# Altium integrated library TI Data Converters Digital to Analog Converter.IntLib: 1533 symbols (part 63 of 99)
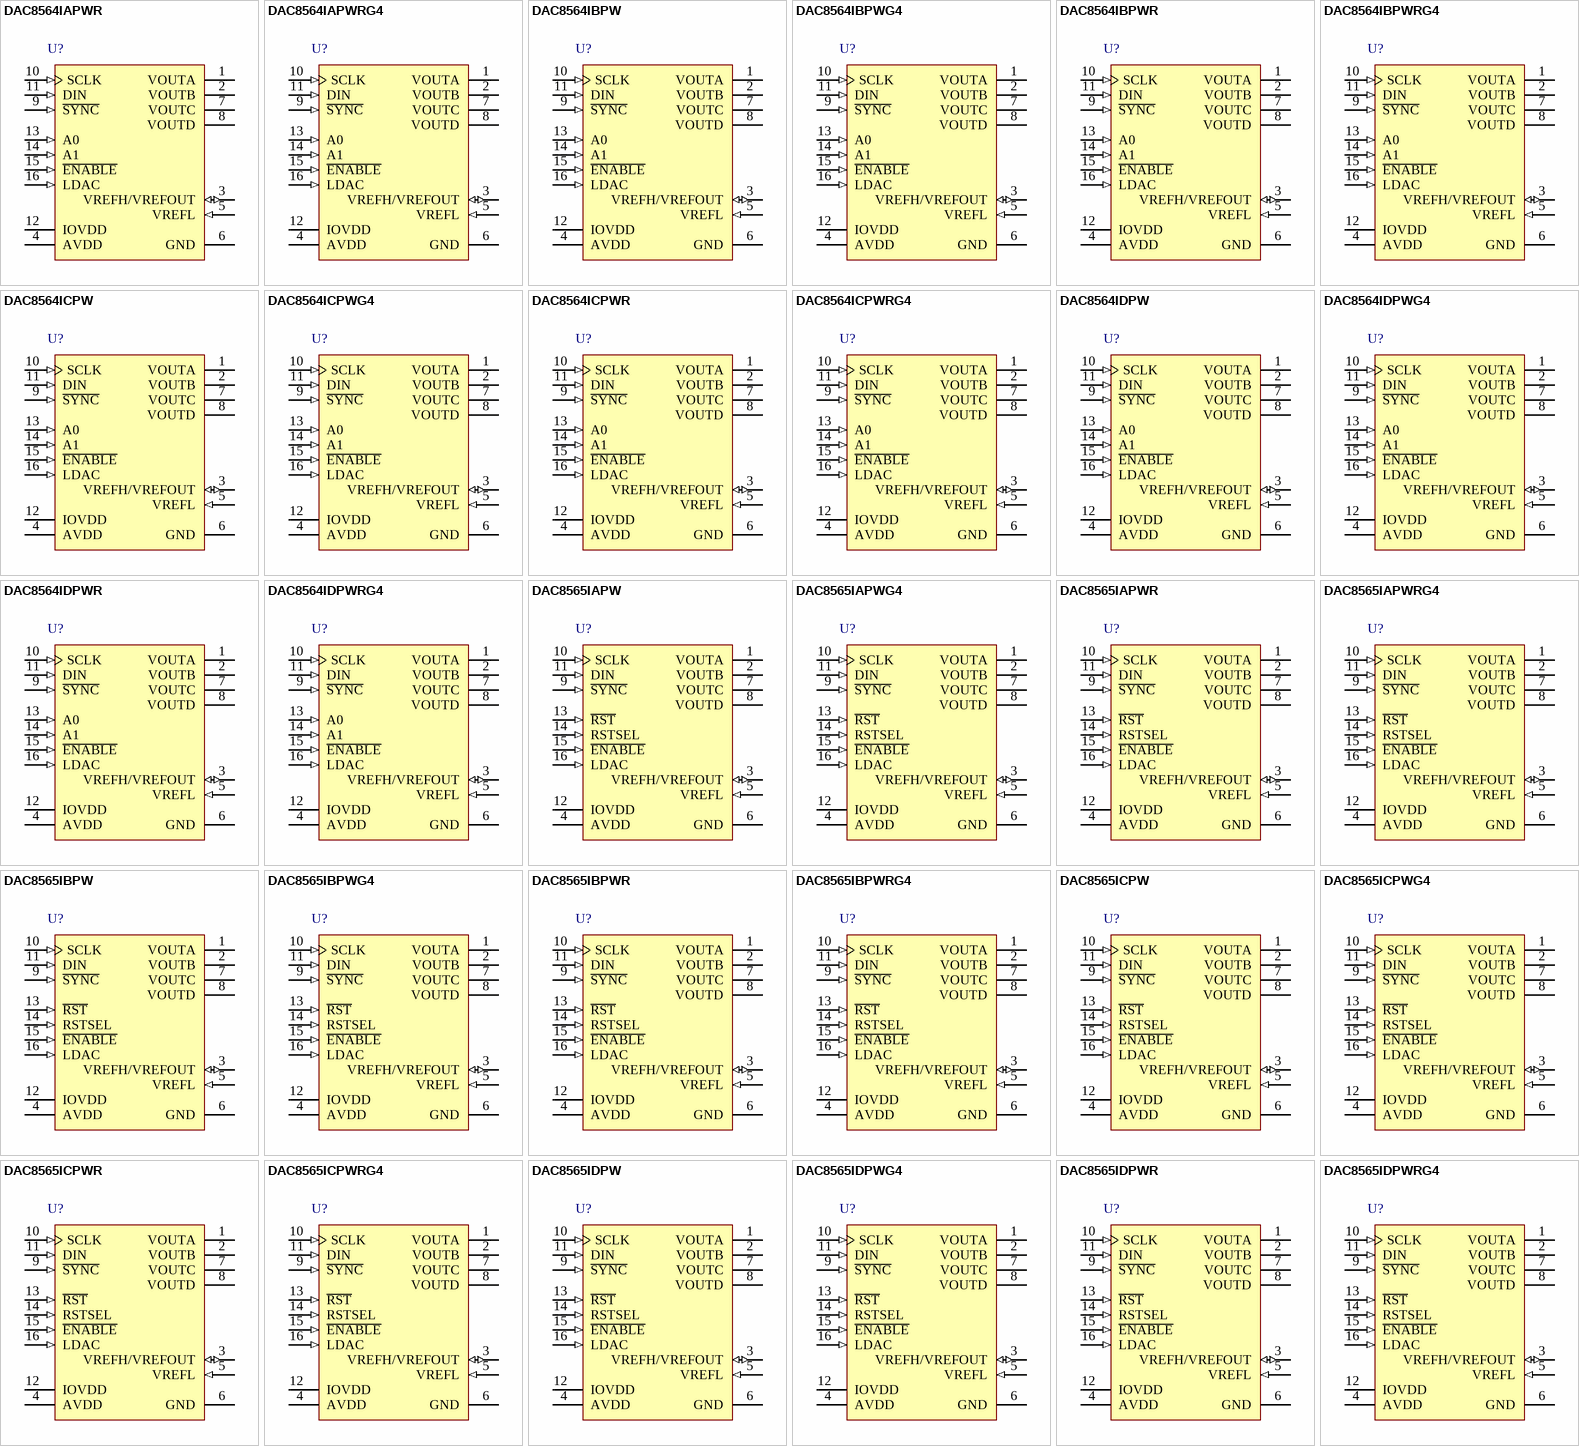
[diagram p135: symbols DAC8564IAPWR to DAC8565IDPWRG4]

## DAC8565IAPWG4
designator U?
16-Bit, Quad Channel, Ultra-Low Glitch, Voltage Output DAC with 2.5 V, 2 ppm/degC Internal Reference, -40 to 105 degC, 16-pin SOP (PW16), Green (RoHS & no Sb/Br); Manufacturer: Texas Instruments; PartNumber: DAC8565IAPWG4; DAC Channels: 4; DNL(Max)(+/-LSB): 1; INL(Max)(+/-LSB): 12; Interface: Serial SPI; Power Consumption(Typ)(mW): 3.6; Resolution(Bits): 16; Settling Time(us): 8; SFDR(dB): 78; SNR(dB): 90; SubFamily: Precision DAC (=<10MSPS); DatasheetVersion: SBAS411C; PackageVersion: 4040064-4/G, 02/2011; PackageReference: PW16; PackageDescription: 16-Pin Plastic Small Outline, Body 5 x 4.4 mm, Pitch 0.65 mm; Supplier 1: Digi-Key; Supplier Part Number 1: DAC8565IAPWG4-ND; Supplier 2: Mouser; Supplier Part Number 2: 595-DAC8565IAPWG4; Eco-Plan: Green (RoHS & no Sb/Br); Mounting Technology: Surface Mount; Code_JEDEC: MO-153; ComponentLink1Description: Manufacturer URL; ComponentLink1URL: http://www.ti.com/; ComponentLink2Description: Datasheet; ComponentLink2URL: http://www.ti.com/general/docs/lit/getliterature.tsp?genericPartNumber=DAC8565&fileType=pdf; ComponentLink3Description: Package Specification; ComponentLink3URL: http://www.ti.com/lit/ml/mpds361/mpds361.pdf
footprint TI-PW16_N (SOP, 16-Leads, Body 5x4.4mm, Pitch 0.65mm, IPC Medium Density)
footprint TI-PW16_L (SOP, 16-Leads, Body 5x4.4mm, Pitch 0.65mm, IPC High Density)
footprint TI-PW16_M (SOP, 16-Leads, Body 5x4.4mm, Pitch 0.65mm, IPC Low Density)
pins: 1 VOUTA (hiz) "Analog output voltage from DAC A", 2 VOUTB (hiz) "Analog output voltage from DAC B", 3 VREFH/VREFOUT (io) "Positive reference input / reference output 2.5V if internal reference used.", 4 AVDD (power) "Power-supply input, 2.7V to 5.5V", 5 VREFL (in) "Negative reference input", 6 GND (power) "Ground reference point for all circuitry on the part", 7 VOUTC (hiz) "Analog output voltage from DAC C", 8 VOUTD (hiz) "Analog output voltage from DAC D", 9 ~{SYNC} (in) "Level-triggered control input (active low). This input is the frame synchronization signal for the input data. When S\Y\N\C\ goes low, it enables the input shift register, and data are sampled on subsequent falling clock (See Datasheet)", 10 SCLK (in) "Serial clock input. Data can be transferred at rates up to 50MHz. Schmitt-Trigger logic input.", 11 DIN (in) "Serial data input. Data are clocked into the 24-bit input shift register on each falling edge of the serial clock input. Schmitt-Trigger logic input.", 12 IOVDD (power) "Digital input-output power supply", 13 ~{RST} (in) "Asynchronous reset. Active low. If R\S\T\ is low, all DAC channels reset either to zero-scale (RSTSEL = 0) or to mid-scale (RSTSEL = 1)", 14 RSTSEL (in) "Reset select. If RSTSEL is low, input coding is binary; if high = two's complement.", 15 ~{ENABLE} (in) "The enable pin (active low) connects the SPI interface to the serial port", 16 LDAC (in) "Load DACs; rising edge triggered, loads all DAC registers"

## DAC8565IAPWR
designator U?
16-Bit, Quad Channel, Ultra-Low Glitch, Voltage Output DAC with 2.5 V, 2 ppm/degC Internal Reference, -40 to 105 degC, 16-pin SOP (PW16), Green (RoHS & no Sb/Br); Manufacturer: Texas Instruments; PartNumber: DAC8565IAPWR; DAC Channels: 4; DNL(Max)(+/-LSB): 1; INL(Max)(+/-LSB): 12; Interface: Serial SPI; Power Consumption(Typ)(mW): 3.6; Resolution(Bits): 16; Settling Time(us): 8; SFDR(dB): 78; SNR(dB): 90; SubFamily: Precision DAC (=<10MSPS); DatasheetVersion: SBAS411C; PackageVersion: 4040064-4/G, 02/2011; PackageReference: PW16; PackageDescription: 16-Pin Plastic Small Outline, Body 5 x 4.4 mm, Pitch 0.65 mm; Supplier 1: Digi-Key; Supplier Part Number 1: DAC8565IAPWR-ND; Supplier 2: Newark; Supplier Part Number 2: 65M0712; Supplier 3: Mouser; Supplier Part Number 3: 595-DAC8565IAPWR; Eco-Plan: Green (RoHS & no Sb/Br); Mounting Technology: Surface Mount; Code_JEDEC: MO-153; ComponentLink1Description: Manufacturer URL; ComponentLink1URL: http://www.ti.com/; ComponentLink2Description: Datasheet; ComponentLink2URL: http://www.ti.com/general/docs/lit/getliterature.tsp?genericPartNumber=DAC8565&fileType=pdf; ComponentLink3Description: Package Specification; ComponentLink3URL: http://www.ti.com/lit/ml/mpds361/mpds361.pdf
footprint TI-PW16_N (SOP, 16-Leads, Body 5x4.4mm, Pitch 0.65mm, IPC Medium Density)
footprint TI-PW16_L (SOP, 16-Leads, Body 5x4.4mm, Pitch 0.65mm, IPC High Density)
footprint TI-PW16_M (SOP, 16-Leads, Body 5x4.4mm, Pitch 0.65mm, IPC Low Density)
pins: 1 VOUTA (hiz) "Analog output voltage from DAC A", 2 VOUTB (hiz) "Analog output voltage from DAC B", 3 VREFH/VREFOUT (io) "Positive reference input / reference output 2.5V if internal reference used.", 4 AVDD (power) "Power-supply input, 2.7V to 5.5V", 5 VREFL (in) "Negative reference input", 6 GND (power) "Ground reference point for all circuitry on the part", 7 VOUTC (hiz) "Analog output voltage from DAC C", 8 VOUTD (hiz) "Analog output voltage from DAC D", 9 ~{SYNC} (in) "Level-triggered control input (active low). This input is the frame synchronization signal for the input data. When S\Y\N\C\ goes low, it enables the input shift register, and data are sampled on subsequent falling clock (See Datasheet)", 10 SCLK (in) "Serial clock input. Data can be transferred at rates up to 50MHz. Schmitt-Trigger logic input.", 11 DIN (in) "Serial data input. Data are clocked into the 24-bit input shift register on each falling edge of the serial clock input. Schmitt-Trigger logic input.", 12 IOVDD (power) "Digital input-output power supply", 13 ~{RST} (in) "Asynchronous reset. Active low. If R\S\T\ is low, all DAC channels reset either to zero-scale (RSTSEL = 0) or to mid-scale (RSTSEL = 1)", 14 RSTSEL (in) "Reset select. If RSTSEL is low, input coding is binary; if high = two's complement.", 15 ~{ENABLE} (in) "The enable pin (active low) connects the SPI interface to the serial port", 16 LDAC (in) "Load DACs; rising edge triggered, loads all DAC registers"

## DAC8565IAPWRG4
designator U?
16-Bit, Quad Channel, Ultra-Low Glitch, Voltage Output DAC with 2.5 V, 2 ppm/degC Internal Reference, -40 to 105 degC, 16-pin SOP (PW16), Green (RoHS & no Sb/Br); Manufacturer: Texas Instruments; PartNumber: DAC8565IAPWRG4; DAC Channels: 4; DNL(Max)(+/-LSB): 1; INL(Max)(+/-LSB): 12; Interface: Serial SPI; Power Consumption(Typ)(mW): 3.6; Resolution(Bits): 16; Settling Time(us): 8; SFDR(dB): 78; SNR(dB): 90; SubFamily: Precision DAC (=<10MSPS); DatasheetVersion: SBAS411C; PackageVersion: 4040064-4/G, 02/2011; PackageReference: PW16; PackageDescription: 16-Pin Plastic Small Outline, Body 5 x 4.4 mm, Pitch 0.65 mm; Supplier 1: Digi-Key; Supplier Part Number 1: DAC8565IAPWRG4-ND; Supplier 2: Mouser; Supplier Part Number 2: 595-DAC8565IAPWRG4; Eco-Plan: Green (RoHS & no Sb/Br); Mounting Technology: Surface Mount; Code_JEDEC: MO-153; ComponentLink1Description: Manufacturer URL; ComponentLink1URL: http://www.ti.com/; ComponentLink2Description: Datasheet; ComponentLink2URL: http://www.ti.com/general/docs/lit/getliterature.tsp?genericPartNumber=DAC8565&fileType=pdf; ComponentLink3Description: Package Specification; ComponentLink3URL: http://www.ti.com/lit/ml/mpds361/mpds361.pdf
footprint TI-PW16_N (SOP, 16-Leads, Body 5x4.4mm, Pitch 0.65mm, IPC Medium Density)
footprint TI-PW16_L (SOP, 16-Leads, Body 5x4.4mm, Pitch 0.65mm, IPC High Density)
footprint TI-PW16_M (SOP, 16-Leads, Body 5x4.4mm, Pitch 0.65mm, IPC Low Density)
pins: 1 VOUTA (hiz) "Analog output voltage from DAC A", 2 VOUTB (hiz) "Analog output voltage from DAC B", 3 VREFH/VREFOUT (io) "Positive reference input / reference output 2.5V if internal reference used.", 4 AVDD (power) "Power-supply input, 2.7V to 5.5V", 5 VREFL (in) "Negative reference input", 6 GND (power) "Ground reference point for all circuitry on the part", 7 VOUTC (hiz) "Analog output voltage from DAC C", 8 VOUTD (hiz) "Analog output voltage from DAC D", 9 ~{SYNC} (in) "Level-triggered control input (active low). This input is the frame synchronization signal for the input data. When S\Y\N\C\ goes low, it enables the input shift register, and data are sampled on subsequent falling clock (See Datasheet)", 10 SCLK (in) "Serial clock input. Data can be transferred at rates up to 50MHz. Schmitt-Trigger logic input.", 11 DIN (in) "Serial data input. Data are clocked into the 24-bit input shift register on each falling edge of the serial clock input. Schmitt-Trigger logic input.", 12 IOVDD (power) "Digital input-output power supply", 13 ~{RST} (in) "Asynchronous reset. Active low. If R\S\T\ is low, all DAC channels reset either to zero-scale (RSTSEL = 0) or to mid-scale (RSTSEL = 1)", 14 RSTSEL (in) "Reset select. If RSTSEL is low, input coding is binary; if high = two's complement.", 15 ~{ENABLE} (in) "The enable pin (active low) connects the SPI interface to the serial port", 16 LDAC (in) "Load DACs; rising edge triggered, loads all DAC registers"

## DAC8565IBPW
designator U?
16-Bit, Quad Channel, Ultra-Low Glitch, Voltage Output DAC with 2.5 V, 2 ppm/degC Internal Reference, -40 to 105 degC, 16-pin SOP (PW16), Green (RoHS & no Sb/Br); Manufacturer: Texas Instruments; PartNumber: DAC8565IBPW; DAC Channels: 4; DNL(Max)(+/-LSB): 1; INL(Max)(+/-LSB): 8; Interface: Serial SPI; Power Consumption(Typ)(mW): 3.6; Resolution(Bits): 16; SFDR(dB): 78; SNR(dB): 90; SubFamily: Precision DAC (=<10MSPS); DatasheetVersion: SBAS411C; PackageVersion: 4040064-4/G, 02/2011; PackageReference: PW16; PackageDescription: 16-Pin Plastic Small Outline, Body 5 x 4.4 mm, Pitch 0.65 mm; Supplier 1: Digi-Key; Supplier Part Number 1: 296-22925-5-ND; Supplier 2: Mouser; Supplier Part Number 2: 595-DAC8565IBPW; Eco-Plan: Green (RoHS & no Sb/Br); Settling Time(us): 8; Mounting Technology: Surface Mount; Code_JEDEC: MO-153; ComponentLink1Description: Manufacturer URL; ComponentLink1URL: http://www.ti.com/; ComponentLink2Description: Datasheet; ComponentLink2URL: http://www.ti.com/general/docs/lit/getliterature.tsp?genericPartNumber=DAC8565&fileType=pdf; ComponentLink3Description: Package Specification; ComponentLink3URL: http://www.ti.com/lit/ml/mpds361/mpds361.pdf
footprint TI-PW16_N (SOP, 16-Leads, Body 5x4.4mm, Pitch 0.65mm, IPC Medium Density)
footprint TI-PW16_L (SOP, 16-Leads, Body 5x4.4mm, Pitch 0.65mm, IPC High Density)
footprint TI-PW16_M (SOP, 16-Leads, Body 5x4.4mm, Pitch 0.65mm, IPC Low Density)
pins: 1 VOUTA (hiz) "Analog output voltage from DAC A", 2 VOUTB (hiz) "Analog output voltage from DAC B", 3 VREFH/VREFOUT (io) "Positive reference input / reference output 2.5V if internal reference used.", 4 AVDD (power) "Power-supply input, 2.7V to 5.5V", 5 VREFL (in) "Negative reference input", 6 GND (power) "Ground reference point for all circuitry on the part", 7 VOUTC (hiz) "Analog output voltage from DAC C", 8 VOUTD (hiz) "Analog output voltage from DAC D", 9 ~{SYNC} (in) "Level-triggered control input (active low). This input is the frame synchronization signal for the input data. When S\Y\N\C\ goes low, it enables the input shift register, and data are sampled on subsequent falling clock (See Datasheet)", 10 SCLK (in) "Serial clock input. Data can be transferred at rates up to 50MHz. Schmitt-Trigger logic input.", 11 DIN (in) "Serial data input. Data are clocked into the 24-bit input shift register on each falling edge of the serial clock input. Schmitt-Trigger logic input.", 12 IOVDD (power) "Digital input-output power supply", 13 ~{RST} (in) "Asynchronous reset. Active low. If R\S\T\ is low, all DAC channels reset either to zero-scale (RSTSEL = 0) or to mid-scale (RSTSEL = 1)", 14 RSTSEL (in) "Reset select. If RSTSEL is low, input coding is binary; if high = two's complement.", 15 ~{ENABLE} (in) "The enable pin (active low) connects the SPI interface to the serial port", 16 LDAC (in) "Load DACs; rising edge triggered, loads all DAC registers"

## DAC8565IBPWG4
designator U?
16-Bit, Quad Channel, Ultra-Low Glitch, Voltage Output DAC with 2.5 V, 2 ppm/degC Internal Reference, -40 to 105 degC, 16-pin SOP (PW16), Green (RoHS & no Sb/Br); Manufacturer: Texas Instruments; PartNumber: DAC8565IBPWG4; DAC Channels: 4; DNL(Max)(+/-LSB): 1; INL(Max)(+/-LSB): 8; Interface: Serial SPI; Power Consumption(Typ)(mW): 3.6; Resolution(Bits): 16; SFDR(dB): 78; SNR(dB): 90; SubFamily: Precision DAC (=<10MSPS); DatasheetVersion: SBAS411C; PackageVersion: 4040064-4/G, 02/2011; PackageReference: PW16; PackageDescription: 16-Pin Plastic Small Outline, Body 5 x 4.4 mm, Pitch 0.65 mm; Supplier 1: Digi-Key; Supplier Part Number 1: DAC8565IBPWG4-ND; Supplier 2: Mouser; Supplier Part Number 2: 595-DAC8565IBPWG4; Eco-Plan: Green (RoHS & no Sb/Br); Settling Time(us): 8; Mounting Technology: Surface Mount; Code_JEDEC: MO-153; ComponentLink1Description: Manufacturer URL; ComponentLink1URL: http://www.ti.com/; ComponentLink2Description: Datasheet; ComponentLink2URL: http://www.ti.com/general/docs/lit/getliterature.tsp?genericPartNumber=DAC8565&fileType=pdf; ComponentLink3Description: Package Specification; ComponentLink3URL: http://www.ti.com/lit/ml/mpds361/mpds361.pdf
footprint TI-PW16_N (SOP, 16-Leads, Body 5x4.4mm, Pitch 0.65mm, IPC Medium Density)
footprint TI-PW16_L (SOP, 16-Leads, Body 5x4.4mm, Pitch 0.65mm, IPC High Density)
footprint TI-PW16_M (SOP, 16-Leads, Body 5x4.4mm, Pitch 0.65mm, IPC Low Density)
pins: 1 VOUTA (hiz) "Analog output voltage from DAC A", 2 VOUTB (hiz) "Analog output voltage from DAC B", 3 VREFH/VREFOUT (io) "Positive reference input / reference output 2.5V if internal reference used.", 4 AVDD (power) "Power-supply input, 2.7V to 5.5V", 5 VREFL (in) "Negative reference input", 6 GND (power) "Ground reference point for all circuitry on the part", 7 VOUTC (hiz) "Analog output voltage from DAC C", 8 VOUTD (hiz) "Analog output voltage from DAC D", 9 ~{SYNC} (in) "Level-triggered control input (active low). This input is the frame synchronization signal for the input data. When S\Y\N\C\ goes low, it enables the input shift register, and data are sampled on subsequent falling clock (See Datasheet)", 10 SCLK (in) "Serial clock input. Data can be transferred at rates up to 50MHz. Schmitt-Trigger logic input.", 11 DIN (in) "Serial data input. Data are clocked into the 24-bit input shift register on each falling edge of the serial clock input. Schmitt-Trigger logic input.", 12 IOVDD (power) "Digital input-output power supply", 13 ~{RST} (in) "Asynchronous reset. Active low. If R\S\T\ is low, all DAC channels reset either to zero-scale (RSTSEL = 0) or to mid-scale (RSTSEL = 1)", 14 RSTSEL (in) "Reset select. If RSTSEL is low, input coding is binary; if high = two's complement.", 15 ~{ENABLE} (in) "The enable pin (active low) connects the SPI interface to the serial port", 16 LDAC (in) "Load DACs; rising edge triggered, loads all DAC registers"

## DAC8565IBPWR
designator U?
16-Bit, Quad Channel, Ultra-Low Glitch, Voltage Output DAC with 2.5 V, 2 ppm/degC Internal Reference, -40 to 105 degC, 16-pin SOP (PW16), Green (RoHS & no Sb/Br); Manufacturer: Texas Instruments; PartNumber: DAC8565IBPWR; DAC Channels: 4; DNL(Max)(+/-LSB): 1; INL(Max)(+/-LSB): 8; Interface: Serial SPI; Power Consumption(Typ)(mW): 3.6; Resolution(Bits): 16; SFDR(dB): 78; SNR(dB): 90; SubFamily: Precision DAC (=<10MSPS); DatasheetVersion: SBAS411C; PackageVersion: 4040064-4/G, 02/2011; PackageReference: PW16; PackageDescription: 16-Pin Plastic Small Outline, Body 5 x 4.4 mm, Pitch 0.65 mm; Supplier 1: Digi-Key; Supplier Part Number 1: DAC8565IBPWR-ND; Supplier 2: Mouser; Supplier Part Number 2: 595-DAC8565IBPWR; Eco-Plan: Green (RoHS & no Sb/Br); Settling Time(us): 8; Mounting Technology: Surface Mount; Code_JEDEC: MO-153; ComponentLink1Description: Manufacturer URL; ComponentLink1URL: http://www.ti.com/; ComponentLink2Description: Datasheet; ComponentLink2URL: http://www.ti.com/general/docs/lit/getliterature.tsp?genericPartNumber=DAC8565&fileType=pdf; ComponentLink3Description: Package Specification; ComponentLink3URL: http://www.ti.com/lit/ml/mpds361/mpds361.pdf
footprint TI-PW16_N (SOP, 16-Leads, Body 5x4.4mm, Pitch 0.65mm, IPC Medium Density)
footprint TI-PW16_L (SOP, 16-Leads, Body 5x4.4mm, Pitch 0.65mm, IPC High Density)
footprint TI-PW16_M (SOP, 16-Leads, Body 5x4.4mm, Pitch 0.65mm, IPC Low Density)
pins: 1 VOUTA (hiz) "Analog output voltage from DAC A", 2 VOUTB (hiz) "Analog output voltage from DAC B", 3 VREFH/VREFOUT (io) "Positive reference input / reference output 2.5V if internal reference used.", 4 AVDD (power) "Power-supply input, 2.7V to 5.5V", 5 VREFL (in) "Negative reference input", 6 GND (power) "Ground reference point for all circuitry on the part", 7 VOUTC (hiz) "Analog output voltage from DAC C", 8 VOUTD (hiz) "Analog output voltage from DAC D", 9 ~{SYNC} (in) "Level-triggered control input (active low). This input is the frame synchronization signal for the input data. When S\Y\N\C\ goes low, it enables the input shift register, and data are sampled on subsequent falling clock (See Datasheet)", 10 SCLK (in) "Serial clock input. Data can be transferred at rates up to 50MHz. Schmitt-Trigger logic input.", 11 DIN (in) "Serial data input. Data are clocked into the 24-bit input shift register on each falling edge of the serial clock input. Schmitt-Trigger logic input.", 12 IOVDD (power) "Digital input-output power supply", 13 ~{RST} (in) "Asynchronous reset. Active low. If R\S\T\ is low, all DAC channels reset either to zero-scale (RSTSEL = 0) or to mid-scale (RSTSEL = 1)", 14 RSTSEL (in) "Reset select. If RSTSEL is low, input coding is binary; if high = two's complement.", 15 ~{ENABLE} (in) "The enable pin (active low) connects the SPI interface to the serial port", 16 LDAC (in) "Load DACs; rising edge triggered, loads all DAC registers"

## DAC8565IBPWRG4
designator U?
16-Bit, Quad Channel, Ultra-Low Glitch, Voltage Output DAC with 2.5 V, 2 ppm/degC Internal Reference, -40 to 105 degC, 16-pin SOP (PW16), Green (RoHS & no Sb/Br); Manufacturer: Texas Instruments; PartNumber: DAC8565IBPWRG4; DAC Channels: 4; DNL(Max)(+/-LSB): 1; INL(Max)(+/-LSB): 8; Interface: Serial SPI; Power Consumption(Typ)(mW): 3.6; Resolution(Bits): 16; SFDR(dB): 78; SNR(dB): 90; SubFamily: Precision DAC (=<10MSPS); DatasheetVersion: SBAS411C; PackageVersion: 4040064-4/G, 02/2011; PackageReference: PW16; PackageDescription: 16-Pin Plastic Small Outline, Body 5 x 4.4 mm, Pitch 0.65 mm; Supplier 1: Digi-Key; Supplier Part Number 1: DAC8565IBPWRG4-ND; Supplier 2: Mouser; Supplier Part Number 2: 595-DAC8565IBPWRG4; Eco-Plan: Green (RoHS & no Sb/Br); Settling Time(us): 8; Mounting Technology: Surface Mount; Code_JEDEC: MO-153; ComponentLink1Description: Manufacturer URL; ComponentLink1URL: http://www.ti.com/; ComponentLink2Description: Datasheet; ComponentLink2URL: http://www.ti.com/general/docs/lit/getliterature.tsp?genericPartNumber=DAC8565&fileType=pdf; ComponentLink3Description: Package Specification; ComponentLink3URL: http://www.ti.com/lit/ml/mpds361/mpds361.pdf
footprint TI-PW16_N (SOP, 16-Leads, Body 5x4.4mm, Pitch 0.65mm, IPC Medium Density)
footprint TI-PW16_L (SOP, 16-Leads, Body 5x4.4mm, Pitch 0.65mm, IPC High Density)
footprint TI-PW16_M (SOP, 16-Leads, Body 5x4.4mm, Pitch 0.65mm, IPC Low Density)
pins: 1 VOUTA (hiz) "Analog output voltage from DAC A", 2 VOUTB (hiz) "Analog output voltage from DAC B", 3 VREFH/VREFOUT (io) "Positive reference input / reference output 2.5V if internal reference used.", 4 AVDD (power) "Power-supply input, 2.7V to 5.5V", 5 VREFL (in) "Negative reference input", 6 GND (power) "Ground reference point for all circuitry on the part", 7 VOUTC (hiz) "Analog output voltage from DAC C", 8 VOUTD (hiz) "Analog output voltage from DAC D", 9 ~{SYNC} (in) "Level-triggered control input (active low). This input is the frame synchronization signal for the input data. When S\Y\N\C\ goes low, it enables the input shift register, and data are sampled on subsequent falling clock (See Datasheet)", 10 SCLK (in) "Serial clock input. Data can be transferred at rates up to 50MHz. Schmitt-Trigger logic input.", 11 DIN (in) "Serial data input. Data are clocked into the 24-bit input shift register on each falling edge of the serial clock input. Schmitt-Trigger logic input.", 12 IOVDD (power) "Digital input-output power supply", 13 ~{RST} (in) "Asynchronous reset. Active low. If R\S\T\ is low, all DAC channels reset either to zero-scale (RSTSEL = 0) or to mid-scale (RSTSEL = 1)", 14 RSTSEL (in) "Reset select. If RSTSEL is low, input coding is binary; if high = two's complement.", 15 ~{ENABLE} (in) "The enable pin (active low) connects the SPI interface to the serial port", 16 LDAC (in) "Load DACs; rising edge triggered, loads all DAC registers"

## DAC8565ICPW
designator U?
16-Bit, Quad Channel, Ultra-Low Glitch, Voltage Output DAC with 2.5 V, 2 ppm/degC Internal Reference, -40 to 105 degC, 16-pin SOP (PW16), Green (RoHS & no Sb/Br); Manufacturer: Texas Instruments; PartNumber: DAC8565ICPW; DAC Channels: 4; DNL(Max)(+/-LSB): 1; INL(Max)(+/-LSB): 12; Interface: Serial SPI; Power Consumption(Typ)(mW): 3.6; Resolution(Bits): 16; Settling Time(us): 8; SFDR(dB): 78; SNR(dB): 90; SubFamily: Precision DAC (=<10MSPS); DatasheetVersion: SBAS411C; PackageVersion: 4040064-4/G, 02/2011; PackageReference: PW16; PackageDescription: 16-Pin Plastic Small Outline, Body 5 x 4.4 mm, Pitch 0.65 mm; Supplier 1: Digi-Key; Supplier Part Number 1: 296-22926-5-ND; Supplier 2: Newark; Supplier Part Number 2: 65M0715; Supplier 3: Mouser; Supplier Part Number 3: 595-DAC8565ICPW; Eco-Plan: Green (RoHS & no Sb/Br); Mounting Technology: Surface Mount; Code_JEDEC: MO-153; ComponentLink1Description: Manufacturer URL; ComponentLink1URL: http://www.ti.com/; ComponentLink2Description: Datasheet; ComponentLink2URL: http://www.ti.com/general/docs/lit/getliterature.tsp?genericPartNumber=DAC8565&fileType=pdf; ComponentLink3Description: Package Specification; ComponentLink3URL: http://www.ti.com/lit/ml/mpds361/mpds361.pdf
footprint TI-PW16_N (SOP, 16-Leads, Body 5x4.4mm, Pitch 0.65mm, IPC Medium Density)
footprint TI-PW16_L (SOP, 16-Leads, Body 5x4.4mm, Pitch 0.65mm, IPC High Density)
footprint TI-PW16_M (SOP, 16-Leads, Body 5x4.4mm, Pitch 0.65mm, IPC Low Density)
pins: 1 VOUTA (hiz) "Analog output voltage from DAC A", 2 VOUTB (hiz) "Analog output voltage from DAC B", 3 VREFH/VREFOUT (io) "Positive reference input / reference output 2.5V if internal reference used.", 4 AVDD (power) "Power-supply input, 2.7V to 5.5V", 5 VREFL (in) "Negative reference input", 6 GND (power) "Ground reference point for all circuitry on the part", 7 VOUTC (hiz) "Analog output voltage from DAC C", 8 VOUTD (hiz) "Analog output voltage from DAC D", 9 ~{SYNC} (in) "Level-triggered control input (active low). This input is the frame synchronization signal for the input data. When S\Y\N\C\ goes low, it enables the input shift register, and data are sampled on subsequent falling clock (See Datasheet)", 10 SCLK (in) "Serial clock input. Data can be transferred at rates up to 50MHz. Schmitt-Trigger logic input.", 11 DIN (in) "Serial data input. Data are clocked into the 24-bit input shift register on each falling edge of the serial clock input. Schmitt-Trigger logic input.", 12 IOVDD (power) "Digital input-output power supply", 13 ~{RST} (in) "Asynchronous reset. Active low. If R\S\T\ is low, all DAC channels reset either to zero-scale (RSTSEL = 0) or to mid-scale (RSTSEL = 1)", 14 RSTSEL (in) "Reset select. If RSTSEL is low, input coding is binary; if high = two's complement.", 15 ~{ENABLE} (in) "The enable pin (active low) connects the SPI interface to the serial port", 16 LDAC (in) "Load DACs; rising edge triggered, loads all DAC registers"

## DAC8565ICPWG4
designator U?
16-Bit, Quad Channel, Ultra-Low Glitch, Voltage Output DAC with 2.5 V, 2 ppm/degC Internal Reference, -40 to 105 degC, 16-pin SOP (PW16), Green (RoHS & no Sb/Br); Manufacturer: Texas Instruments; PartNumber: DAC8565ICPWG4; DAC Channels: 4; DNL(Max)(+/-LSB): 1; INL(Max)(+/-LSB): 12; Interface: Serial SPI; Power Consumption(Typ)(mW): 3.6; Resolution(Bits): 16; Settling Time(us): 8; SFDR(dB): 78; SNR(dB): 90; SubFamily: Precision DAC (=<10MSPS); DatasheetVersion: SBAS411C; PackageVersion: 4040064-4/G, 02/2011; PackageReference: PW16; PackageDescription: 16-Pin Plastic Small Outline, Body 5 x 4.4 mm, Pitch 0.65 mm; Supplier 1: Digi-Key; Supplier Part Number 1: DAC8565ICPWG4-ND; Supplier 2: Mouser; Supplier Part Number 2: 595-DAC8565ICPWG4; Eco-Plan: Green (RoHS & no Sb/Br); Mounting Technology: Surface Mount; Code_JEDEC: MO-153; ComponentLink1Description: Manufacturer URL; ComponentLink1URL: http://www.ti.com/; ComponentLink2Description: Datasheet; ComponentLink2URL: http://www.ti.com/general/docs/lit/getliterature.tsp?genericPartNumber=DAC8565&fileType=pdf; ComponentLink3Description: Package Specification; ComponentLink3URL: http://www.ti.com/lit/ml/mpds361/mpds361.pdf
footprint TI-PW16_N (SOP, 16-Leads, Body 5x4.4mm, Pitch 0.65mm, IPC Medium Density)
footprint TI-PW16_L (SOP, 16-Leads, Body 5x4.4mm, Pitch 0.65mm, IPC High Density)
footprint TI-PW16_M (SOP, 16-Leads, Body 5x4.4mm, Pitch 0.65mm, IPC Low Density)
pins: 1 VOUTA (hiz) "Analog output voltage from DAC A", 2 VOUTB (hiz) "Analog output voltage from DAC B", 3 VREFH/VREFOUT (io) "Positive reference input / reference output 2.5V if internal reference used.", 4 AVDD (power) "Power-supply input, 2.7V to 5.5V", 5 VREFL (in) "Negative reference input", 6 GND (power) "Ground reference point for all circuitry on the part", 7 VOUTC (hiz) "Analog output voltage from DAC C", 8 VOUTD (hiz) "Analog output voltage from DAC D", 9 ~{SYNC} (in) "Level-triggered control input (active low). This input is the frame synchronization signal for the input data. When S\Y\N\C\ goes low, it enables the input shift register, and data are sampled on subsequent falling clock (See Datasheet)", 10 SCLK (in) "Serial clock input. Data can be transferred at rates up to 50MHz. Schmitt-Trigger logic input.", 11 DIN (in) "Serial data input. Data are clocked into the 24-bit input shift register on each falling edge of the serial clock input. Schmitt-Trigger logic input.", 12 IOVDD (power) "Digital input-output power supply", 13 ~{RST} (in) "Asynchronous reset. Active low. If R\S\T\ is low, all DAC channels reset either to zero-scale (RSTSEL = 0) or to mid-scale (RSTSEL = 1)", 14 RSTSEL (in) "Reset select. If RSTSEL is low, input coding is binary; if high = two's complement.", 15 ~{ENABLE} (in) "The enable pin (active low) connects the SPI interface to the serial port", 16 LDAC (in) "Load DACs; rising edge triggered, loads all DAC registers"

## DAC8565ICPWR
designator U?
16-Bit, Quad Channel, Ultra-Low Glitch, Voltage Output DAC with 2.5 V, 2 ppm/degC Internal Reference, -40 to 105 degC, 16-pin SOP (PW16), Green (RoHS & no Sb/Br); Manufacturer: Texas Instruments; PartNumber: DAC8565ICPWR; DAC Channels: 4; DNL(Max)(+/-LSB): 1; INL(Max)(+/-LSB): 12; Interface: Serial SPI; Power Consumption(Typ)(mW): 3.6; Resolution(Bits): 16; Settling Time(us): 8; SFDR(dB): 78; SNR(dB): 90; SubFamily: Precision DAC (=<10MSPS); DatasheetVersion: SBAS411C; PackageVersion: 4040064-4/G, 02/2011; PackageReference: PW16; PackageDescription: 16-Pin Plastic Small Outline, Body 5 x 4.4 mm, Pitch 0.65 mm; Supplier 1: Digi-Key; Supplier Part Number 1: DAC8565ICPWR-ND; Supplier 2: Mouser; Supplier Part Number 2: 595-DAC8565ICPWR; Eco-Plan: Green (RoHS & no Sb/Br); Mounting Technology: Surface Mount; Code_JEDEC: MO-153; ComponentLink1Description: Manufacturer URL; ComponentLink1URL: http://www.ti.com/; ComponentLink2Description: Datasheet; ComponentLink2URL: http://www.ti.com/general/docs/lit/getliterature.tsp?genericPartNumber=DAC8565&fileType=pdf; ComponentLink3Description: Package Specification; ComponentLink3URL: http://www.ti.com/lit/ml/mpds361/mpds361.pdf
footprint TI-PW16_N (SOP, 16-Leads, Body 5x4.4mm, Pitch 0.65mm, IPC Medium Density)
footprint TI-PW16_L (SOP, 16-Leads, Body 5x4.4mm, Pitch 0.65mm, IPC High Density)
footprint TI-PW16_M (SOP, 16-Leads, Body 5x4.4mm, Pitch 0.65mm, IPC Low Density)
pins: 1 VOUTA (hiz) "Analog output voltage from DAC A", 2 VOUTB (hiz) "Analog output voltage from DAC B", 3 VREFH/VREFOUT (io) "Positive reference input / reference output 2.5V if internal reference used.", 4 AVDD (power) "Power-supply input, 2.7V to 5.5V", 5 VREFL (in) "Negative reference input", 6 GND (power) "Ground reference point for all circuitry on the part", 7 VOUTC (hiz) "Analog output voltage from DAC C", 8 VOUTD (hiz) "Analog output voltage from DAC D", 9 ~{SYNC} (in) "Level-triggered control input (active low). This input is the frame synchronization signal for the input data. When S\Y\N\C\ goes low, it enables the input shift register, and data are sampled on subsequent falling clock (See Datasheet)", 10 SCLK (in) "Serial clock input. Data can be transferred at rates up to 50MHz. Schmitt-Trigger logic input.", 11 DIN (in) "Serial data input. Data are clocked into the 24-bit input shift register on each falling edge of the serial clock input. Schmitt-Trigger logic input.", 12 IOVDD (power) "Digital input-output power supply", 13 ~{RST} (in) "Asynchronous reset. Active low. If R\S\T\ is low, all DAC channels reset either to zero-scale (RSTSEL = 0) or to mid-scale (RSTSEL = 1)", 14 RSTSEL (in) "Reset select. If RSTSEL is low, input coding is binary; if high = two's complement.", 15 ~{ENABLE} (in) "The enable pin (active low) connects the SPI interface to the serial port", 16 LDAC (in) "Load DACs; rising edge triggered, loads all DAC registers"

## DAC8565ICPWRG4
designator U?
16-Bit, Quad Channel, Ultra-Low Glitch, Voltage Output DAC with 2.5 V, 2 ppm/degC Internal Reference, -40 to 105 degC, 16-pin SOP (PW16), Green (RoHS & no Sb/Br); Manufacturer: Texas Instruments; PartNumber: DAC8565ICPWRG4; DAC Channels: 4; DNL(Max)(+/-LSB): 1; INL(Max)(+/-LSB): 12; Interface: Serial SPI; Power Consumption(Typ)(mW): 3.6; Resolution(Bits): 16; Settling Time(us): 8; SFDR(dB): 78; SNR(dB): 90; SubFamily: Precision DAC (=<10MSPS); DatasheetVersion: SBAS411C; PackageVersion: 4040064-4/G, 02/2011; PackageReference: PW16; PackageDescription: 16-Pin Plastic Small Outline, Body 5 x 4.4 mm, Pitch 0.65 mm; Supplier 1: Digi-Key; Supplier Part Number 1: DAC8565ICPWRG4-ND; Supplier 2: Mouser; Supplier Part Number 2: 595-DAC8565ICPWRG4; Eco-Plan: Green (RoHS & no Sb/Br); Mounting Technology: Surface Mount; Code_JEDEC: MO-153; ComponentLink1Description: Manufacturer URL; ComponentLink1URL: http://www.ti.com/; ComponentLink2Description: Datasheet; ComponentLink2URL: http://www.ti.com/general/docs/lit/getliterature.tsp?genericPartNumber=DAC8565&fileType=pdf; ComponentLink3Description: Package Specification; ComponentLink3URL: http://www.ti.com/lit/ml/mpds361/mpds361.pdf
footprint TI-PW16_N (SOP, 16-Leads, Body 5x4.4mm, Pitch 0.65mm, IPC Medium Density)
footprint TI-PW16_L (SOP, 16-Leads, Body 5x4.4mm, Pitch 0.65mm, IPC High Density)
footprint TI-PW16_M (SOP, 16-Leads, Body 5x4.4mm, Pitch 0.65mm, IPC Low Density)
pins: 1 VOUTA (hiz) "Analog output voltage from DAC A", 2 VOUTB (hiz) "Analog output voltage from DAC B", 3 VREFH/VREFOUT (io) "Positive reference input / reference output 2.5V if internal reference used.", 4 AVDD (power) "Power-supply input, 2.7V to 5.5V", 5 VREFL (in) "Negative reference input", 6 GND (power) "Ground reference point for all circuitry on the part", 7 VOUTC (hiz) "Analog output voltage from DAC C", 8 VOUTD (hiz) "Analog output voltage from DAC D", 9 ~{SYNC} (in) "Level-triggered control input (active low). This input is the frame synchronization signal for the input data. When S\Y\N\C\ goes low, it enables the input shift register, and data are sampled on subsequent falling clock (See Datasheet)", 10 SCLK (in) "Serial clock input. Data can be transferred at rates up to 50MHz. Schmitt-Trigger logic input.", 11 DIN (in) "Serial data input. Data are clocked into the 24-bit input shift register on each falling edge of the serial clock input. Schmitt-Trigger logic input.", 12 IOVDD (power) "Digital input-output power supply", 13 ~{RST} (in) "Asynchronous reset. Active low. If R\S\T\ is low, all DAC channels reset either to zero-scale (RSTSEL = 0) or to mid-scale (RSTSEL = 1)", 14 RSTSEL (in) "Reset select. If RSTSEL is low, input coding is binary; if high = two's complement.", 15 ~{ENABLE} (in) "The enable pin (active low) connects the SPI interface to the serial port", 16 LDAC (in) "Load DACs; rising edge triggered, loads all DAC registers"

## DAC8565IDPW
designator U?
16-Bit, Quad Channel, Ultra-Low Glitch, Voltage Output DAC with 2.5 V, 2 ppm/degC Internal Reference, -40 to 105 degC, 16-pin SOP (PW16), Green (RoHS & no Sb/Br); Manufacturer: Texas Instruments; PartNumber: DAC8565IDPW; DAC Channels: 4; DNL(Max)(+/-LSB): 1; INL(Max)(+/-LSB): 8; Interface: Serial SPI; Power Consumption(Typ)(mW): 3.6; Resolution(Bits): 16; SFDR(dB): 78; SNR(dB): 90; SubFamily: Precision DAC (=<10MSPS); DatasheetVersion: SBAS411C; PackageVersion: 4040064-4/G, 02/2011; PackageReference: PW16; PackageDescription: 16-Pin Plastic Small Outline, Body 5 x 4.4 mm, Pitch 0.65 mm; Supplier 1: Digi-Key; Supplier Part Number 1: 296-22927-5-ND; Supplier 2: Newark; Supplier Part Number 2: 65M0717; Supplier 3: Mouser; Supplier Part Number 3: 595-DAC8565IDPW; Eco-Plan: Green (RoHS & no Sb/Br); Settling Time(us): 8; Mounting Technology: Surface Mount; Code_JEDEC: MO-153; ComponentLink1Description: Manufacturer URL; ComponentLink1URL: http://www.ti.com/; ComponentLink2Description: Datasheet; ComponentLink2URL: http://www.ti.com/general/docs/lit/getliterature.tsp?genericPartNumber=DAC8565&fileType=pdf; ComponentLink3Description: Package Specification; ComponentLink3URL: http://www.ti.com/lit/ml/mpds361/mpds361.pdf
footprint TI-PW16_N (SOP, 16-Leads, Body 5x4.4mm, Pitch 0.65mm, IPC Medium Density)
footprint TI-PW16_L (SOP, 16-Leads, Body 5x4.4mm, Pitch 0.65mm, IPC High Density)
footprint TI-PW16_M (SOP, 16-Leads, Body 5x4.4mm, Pitch 0.65mm, IPC Low Density)
pins: 1 VOUTA (hiz) "Analog output voltage from DAC A", 2 VOUTB (hiz) "Analog output voltage from DAC B", 3 VREFH/VREFOUT (io) "Positive reference input / reference output 2.5V if internal reference used.", 4 AVDD (power) "Power-supply input, 2.7V to 5.5V", 5 VREFL (in) "Negative reference input", 6 GND (power) "Ground reference point for all circuitry on the part", 7 VOUTC (hiz) "Analog output voltage from DAC C", 8 VOUTD (hiz) "Analog output voltage from DAC D", 9 ~{SYNC} (in) "Level-triggered control input (active low). This input is the frame synchronization signal for the input data. When S\Y\N\C\ goes low, it enables the input shift register, and data are sampled on subsequent falling clock (See Datasheet)", 10 SCLK (in) "Serial clock input. Data can be transferred at rates up to 50MHz. Schmitt-Trigger logic input.", 11 DIN (in) "Serial data input. Data are clocked into the 24-bit input shift register on each falling edge of the serial clock input. Schmitt-Trigger logic input.", 12 IOVDD (power) "Digital input-output power supply", 13 ~{RST} (in) "Asynchronous reset. Active low. If R\S\T\ is low, all DAC channels reset either to zero-scale (RSTSEL = 0) or to mid-scale (RSTSEL = 1)", 14 RSTSEL (in) "Reset select. If RSTSEL is low, input coding is binary; if high = two's complement.", 15 ~{ENABLE} (in) "The enable pin (active low) connects the SPI interface to the serial port", 16 LDAC (in) "Load DACs; rising edge triggered, loads all DAC registers"

## DAC8565IDPWG4
designator U?
16-Bit, Quad Channel, Ultra-Low Glitch, Voltage Output DAC with 2.5 V, 2 ppm/degC Internal Reference, -40 to 105 degC, 16-pin SOP (PW16), Green (RoHS & no Sb/Br); Manufacturer: Texas Instruments; PartNumber: DAC8565IDPWG4; DAC Channels: 4; DNL(Max)(+/-LSB): 1; INL(Max)(+/-LSB): 8; Interface: Serial SPI; Power Consumption(Typ)(mW): 3.6; Resolution(Bits): 16; SFDR(dB): 78; SNR(dB): 90; SubFamily: Precision DAC (=<10MSPS); DatasheetVersion: SBAS411C; PackageVersion: 4040064-4/G, 02/2011; PackageReference: PW16; PackageDescription: 16-Pin Plastic Small Outline, Body 5 x 4.4 mm, Pitch 0.65 mm; Supplier 1: Digi-Key; Supplier Part Number 1: DAC8565IDPWG4-ND; Supplier 2: Mouser; Supplier Part Number 2: 595-DAC8565IDPWG4; Eco-Plan: Green (RoHS & no Sb/Br); Settling Time(us): 8; Mounting Technology: Surface Mount; Code_JEDEC: MO-153; ComponentLink1Description: Manufacturer URL; ComponentLink1URL: http://www.ti.com/; ComponentLink2Description: Datasheet; ComponentLink2URL: http://www.ti.com/general/docs/lit/getliterature.tsp?genericPartNumber=DAC8565&fileType=pdf; ComponentLink3Description: Package Specification; ComponentLink3URL: http://www.ti.com/lit/ml/mpds361/mpds361.pdf
footprint TI-PW16_N (SOP, 16-Leads, Body 5x4.4mm, Pitch 0.65mm, IPC Medium Density)
footprint TI-PW16_L (SOP, 16-Leads, Body 5x4.4mm, Pitch 0.65mm, IPC High Density)
footprint TI-PW16_M (SOP, 16-Leads, Body 5x4.4mm, Pitch 0.65mm, IPC Low Density)
pins: 1 VOUTA (hiz) "Analog output voltage from DAC A", 2 VOUTB (hiz) "Analog output voltage from DAC B", 3 VREFH/VREFOUT (io) "Positive reference input / reference output 2.5V if internal reference used.", 4 AVDD (power) "Power-supply input, 2.7V to 5.5V", 5 VREFL (in) "Negative reference input", 6 GND (power) "Ground reference point for all circuitry on the part", 7 VOUTC (hiz) "Analog output voltage from DAC C", 8 VOUTD (hiz) "Analog output voltage from DAC D", 9 ~{SYNC} (in) "Level-triggered control input (active low). This input is the frame synchronization signal for the input data. When S\Y\N\C\ goes low, it enables the input shift register, and data are sampled on subsequent falling clock (See Datasheet)", 10 SCLK (in) "Serial clock input. Data can be transferred at rates up to 50MHz. Schmitt-Trigger logic input.", 11 DIN (in) "Serial data input. Data are clocked into the 24-bit input shift register on each falling edge of the serial clock input. Schmitt-Trigger logic input.", 12 IOVDD (power) "Digital input-output power supply", 13 ~{RST} (in) "Asynchronous reset. Active low. If R\S\T\ is low, all DAC channels reset either to zero-scale (RSTSEL = 0) or to mid-scale (RSTSEL = 1)", 14 RSTSEL (in) "Reset select. If RSTSEL is low, input coding is binary; if high = two's complement.", 15 ~{ENABLE} (in) "The enable pin (active low) connects the SPI interface to the serial port", 16 LDAC (in) "Load DACs; rising edge triggered, loads all DAC registers"

## DAC8565IDPWR
designator U?
16-Bit, Quad Channel, Ultra-Low Glitch, Voltage Output DAC with 2.5 V, 2 ppm/degC Internal Reference, -40 to 105 degC, 16-pin SOP (PW16), Green (RoHS & no Sb/Br); Manufacturer: Texas Instruments; PartNumber: DAC8565IDPWR; DAC Channels: 4; DNL(Max)(+/-LSB): 1; INL(Max)(+/-LSB): 8; Interface: Serial SPI; Power Consumption(Typ)(mW): 3.6; Resolution(Bits): 16; SFDR(dB): 78; SNR(dB): 90; SubFamily: Precision DAC (=<10MSPS); DatasheetVersion: SBAS411C; PackageVersion: 4040064-4/G, 02/2011; PackageReference: PW16; PackageDescription: 16-Pin Plastic Small Outline, Body 5 x 4.4 mm, Pitch 0.65 mm; Supplier 1: Digi-Key; Supplier Part Number 1: DAC8565IDPWR-ND; Supplier 2: Newark; Supplier Part Number 2: 65M0718; Supplier 3: Mouser; Supplier Part Number 3: 595-DAC8565IDPWR; Eco-Plan: Green (RoHS & no Sb/Br); Settling Time(us): 8; Mounting Technology: Surface Mount; Code_JEDEC: MO-153; ComponentLink1Description: Manufacturer URL; ComponentLink1URL: http://www.ti.com/; ComponentLink2Description: Datasheet; ComponentLink2URL: http://www.ti.com/general/docs/lit/getliterature.tsp?genericPartNumber=DAC8565&fileType=pdf; ComponentLink3Description: Package Specification; ComponentLink3URL: http://www.ti.com/lit/ml/mpds361/mpds361.pdf
footprint TI-PW16_N (SOP, 16-Leads, Body 5x4.4mm, Pitch 0.65mm, IPC Medium Density)
footprint TI-PW16_L (SOP, 16-Leads, Body 5x4.4mm, Pitch 0.65mm, IPC High Density)
footprint TI-PW16_M (SOP, 16-Leads, Body 5x4.4mm, Pitch 0.65mm, IPC Low Density)
pins: 1 VOUTA (hiz) "Analog output voltage from DAC A", 2 VOUTB (hiz) "Analog output voltage from DAC B", 3 VREFH/VREFOUT (io) "Positive reference input / reference output 2.5V if internal reference used.", 4 AVDD (power) "Power-supply input, 2.7V to 5.5V", 5 VREFL (in) "Negative reference input", 6 GND (power) "Ground reference point for all circuitry on the part", 7 VOUTC (hiz) "Analog output voltage from DAC C", 8 VOUTD (hiz) "Analog output voltage from DAC D", 9 ~{SYNC} (in) "Level-triggered control input (active low). This input is the frame synchronization signal for the input data. When S\Y\N\C\ goes low, it enables the input shift register, and data are sampled on subsequent falling clock (See Datasheet)", 10 SCLK (in) "Serial clock input. Data can be transferred at rates up to 50MHz. Schmitt-Trigger logic input.", 11 DIN (in) "Serial data input. Data are clocked into the 24-bit input shift register on each falling edge of the serial clock input. Schmitt-Trigger logic input.", 12 IOVDD (power) "Digital input-output power supply", 13 ~{RST} (in) "Asynchronous reset. Active low. If R\S\T\ is low, all DAC channels reset either to zero-scale (RSTSEL = 0) or to mid-scale (RSTSEL = 1)", 14 RSTSEL (in) "Reset select. If RSTSEL is low, input coding is binary; if high = two's complement.", 15 ~{ENABLE} (in) "The enable pin (active low) connects the SPI interface to the serial port", 16 LDAC (in) "Load DACs; rising edge triggered, loads all DAC registers"

## DAC8565IDPWRG4
designator U?
16-Bit, Quad Channel, Ultra-Low Glitch, Voltage Output DAC with 2.5 V, 2 ppm/degC Internal Reference, -40 to 105 degC, 16-pin SOP (PW16), Green (RoHS & no Sb/Br); Manufacturer: Texas Instruments; PartNumber: DAC8565IDPWRG4; DAC Channels: 4; DNL(Max)(+/-LSB): 1; INL(Max)(+/-LSB): 8; Interface: Serial SPI; Power Consumption(Typ)(mW): 3.6; Resolution(Bits): 16; SFDR(dB): 78; SNR(dB): 90; SubFamily: Precision DAC (=<10MSPS); DatasheetVersion: SBAS411C; PackageVersion: 4040064-4/G, 02/2011; PackageReference: PW16; PackageDescription: 16-Pin Plastic Small Outline, Body 5 x 4.4 mm, Pitch 0.65 mm; Supplier 1: Digi-Key; Supplier Part Number 1: DAC8565IDPWRG4-ND; Supplier 2: Mouser; Supplier Part Number 2: 595-DAC8565IDPWRG4; Eco-Plan: Green (RoHS & no Sb/Br); Settling Time(us): 8; Mounting Technology: Surface Mount; Code_JEDEC: MO-153; ComponentLink1Description: Manufacturer URL; ComponentLink1URL: http://www.ti.com/; ComponentLink2Description: Datasheet; ComponentLink2URL: http://www.ti.com/general/docs/lit/getliterature.tsp?genericPartNumber=DAC8565&fileType=pdf; ComponentLink3Description: Package Specification; ComponentLink3URL: http://www.ti.com/lit/ml/mpds361/mpds361.pdf
footprint TI-PW16_N (SOP, 16-Leads, Body 5x4.4mm, Pitch 0.65mm, IPC Medium Density)
footprint TI-PW16_L (SOP, 16-Leads, Body 5x4.4mm, Pitch 0.65mm, IPC High Density)
footprint TI-PW16_M (SOP, 16-Leads, Body 5x4.4mm, Pitch 0.65mm, IPC Low Density)
pins: 1 VOUTA (hiz) "Analog output voltage from DAC A", 2 VOUTB (hiz) "Analog output voltage from DAC B", 3 VREFH/VREFOUT (io) "Positive reference input / reference output 2.5V if internal reference used.", 4 AVDD (power) "Power-supply input, 2.7V to 5.5V", 5 VREFL (in) "Negative reference input", 6 GND (power) "Ground reference point for all circuitry on the part", 7 VOUTC (hiz) "Analog output voltage from DAC C", 8 VOUTD (hiz) "Analog output voltage from DAC D", 9 ~{SYNC} (in) "Level-triggered control input (active low). This input is the frame synchronization signal for the input data. When S\Y\N\C\ goes low, it enables the input shift register, and data are sampled on subsequent falling clock (See Datasheet)", 10 SCLK (in) "Serial clock input. Data can be transferred at rates up to 50MHz. Schmitt-Trigger logic input.", 11 DIN (in) "Serial data input. Data are clocked into the 24-bit input shift register on each falling edge of the serial clock input. Schmitt-Trigger logic input.", 12 IOVDD (power) "Digital input-output power supply", 13 ~{RST} (in) "Asynchronous reset. Active low. If R\S\T\ is low, all DAC channels reset either to zero-scale (RSTSEL = 0) or to mid-scale (RSTSEL = 1)", 14 RSTSEL (in) "Reset select. If RSTSEL is low, input coding is binary; if high = two's complement.", 15 ~{ENABLE} (in) "The enable pin (active low) connects the SPI interface to the serial port", 16 LDAC (in) "Load DACs; rising edge triggered, loads all DAC registers"

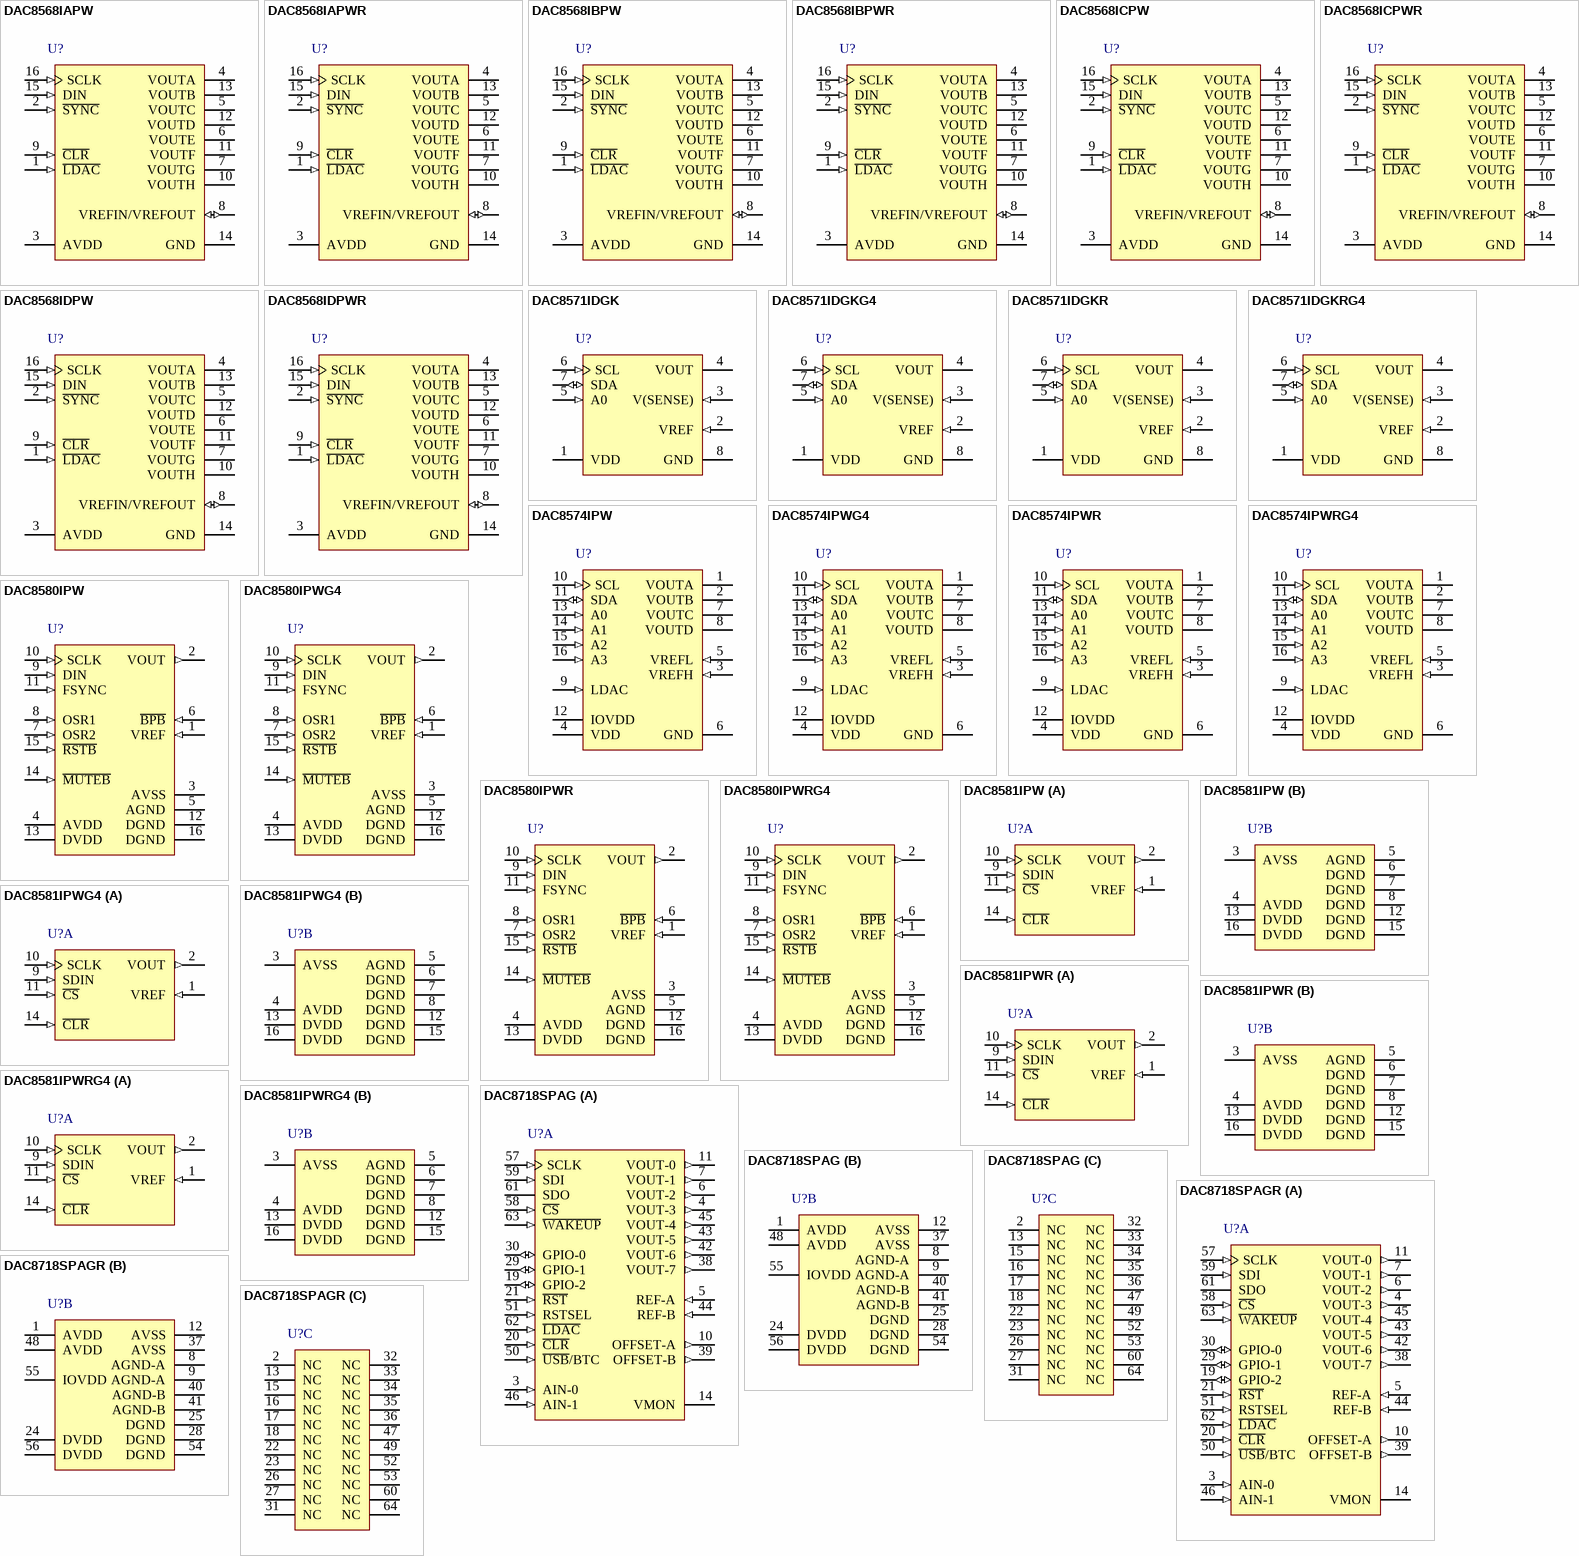
[diagram p49: symbols DAC8568IAPW to DAC8718SPAGR]

## DAC8568IAPW
designator U?
16-Bit, Octal Channel, Ultra-Low Glitch, Voltage Output DAC with 2.5 V, 2 ppm/degC Internal Reference, -40 to 125 degC, 16-pin SOP (PW16), Green (RoHS & no Sb/Br); Manufacturer: Texas Instruments; PartNumber: DAC8568IAPW; DAC Channels: 8; DNL(Max)(+/-LSB): 1; INL(Max)(+/-LSB): 12; Interface: Serial SPI; Power Consumption(Typ)(mW): 2.2; Resolution(Bits): 16; Settling Time(us): 5; SFDR(dB): 63; SNR(dB): 83; SubFamily: Precision DAC (=<10MSPS); DatasheetVersion: SBAS430D; PackageVersion: 4040064-4/G, 02/2011; PackageReference: PW16; PackageDescription: 16-Pin Plastic Small Outline, Body 5 x 4.4 mm, Pitch 0.65 mm; Supplier 1: Digi-Key; Supplier Part Number 1: 296-24444-5-ND; Supplier 2: Newark; Supplier Part Number 2: 09R4529; Supplier 3: Mouser; Supplier Part Number 3: 595-DAC8568IAPW; Eco-Plan: Green (RoHS & no Sb/Br); Mounting Technology: Surface Mount; Code_JEDEC: MO-153; ComponentLink1Description: Manufacturer URL; ComponentLink1URL: http://www.ti.com/; ComponentLink2Description: Datasheet; ComponentLink2URL: http://www.ti.com/general/docs/lit/getliterature.tsp?genericPartNumber=DAC8568&fileType=pdf; ComponentLink3Description: Package Specification; ComponentLink3URL: http://www.ti.com/lit/ml/mpds361/mpds361.pdf
footprint TI-PW16_N (SOP, 16-Leads, Body 5x4.4mm, Pitch 0.65mm, IPC Medium Density)
footprint TI-PW16_L (SOP, 16-Leads, Body 5x4.4mm, Pitch 0.65mm, IPC High Density)
footprint TI-PW16_M (SOP, 16-Leads, Body 5x4.4mm, Pitch 0.65mm, IPC Low Density)
pins: 1 ~{LDAC} (in) "Load DACs.", 2 ~{SYNC} (in) "Level-triggered control input (active low). This input is the frame synchronization signal for the input data. When S\Y\N\C\ goes low, it enables the input shift register, and data are sampled on subsequen falling clock (See Datasheet)", 3 AVDD (power) "Power-supply input, 2.7V to 5.5V", 4 VOUTA (hiz) "Analog output voltage from DAC A", 5 VOUTC (hiz) "Analog output voltage from DAC C", 6 VOUTE (hiz) "Analog output voltage from DAC E", 7 VOUTG (hiz) "Analog output voltage from DAC G", 8 VREFIN/VREFOUT (io) "Positive reference input / reference output 2.5V if internal reference used", 9 ~{CLR} (in) "Asynchronous clear input.", 10 VOUTH (hiz) "Analog output voltage from DAC H", 11 VOUTF (hiz) "Analog output voltage from DAC F", 12 VOUTD (hiz) "Analog output voltage from DAC D", 13 VOUTB (hiz) "Analog output voltage from DAC B", 14 GND (power) "Ground reference point for all circuitry on the devic", 15 DIN (in) "Serial data input. Data are clocked into the 32-bit input shift register on each falling edge of the serial clock input. Schmitt-Trigger logic input.", 16 SCLK (in) "Serial clock input. Data can be transferred at rates up to 50MHz. Schmitt-Trigger logic input."

## DAC8568IAPWR
designator U?
16-Bit, Octal Channel, Ultra-Low Glitch, Voltage Output DAC with 2.5 V, 2 ppm/degC Internal Reference, -40 to 125 degC, 16-pin SOP (PW16), Green (RoHS & no Sb/Br); Manufacturer: Texas Instruments; PartNumber: DAC8568IAPWR; DAC Channels: 8; DNL(Max)(+/-LSB): 1; INL(Max)(+/-LSB): 12; Interface: Serial SPI; Power Consumption(Typ)(mW): 2.2; Resolution(Bits): 16; Settling Time(us): 5; SFDR(dB): 63; SNR(dB): 83; SubFamily: Precision DAC (=<10MSPS); DatasheetVersion: SBAS430D; PackageVersion: 4040064-4/G, 02/2011; PackageReference: PW16; PackageDescription: 16-Pin Plastic Small Outline, Body 5 x 4.4 mm, Pitch 0.65 mm; Supplier 1: Digi-Key; Supplier Part Number 1: DAC8568IAPWR-ND; Supplier 2: Mouser; Supplier Part Number 2: 595-DAC8568IAPWR; Eco-Plan: Green (RoHS & no Sb/Br); Mounting Technology: Surface Mount; Code_JEDEC: MO-153; ComponentLink1Description: Manufacturer URL; ComponentLink1URL: http://www.ti.com/; ComponentLink2Description: Datasheet; ComponentLink2URL: http://www.ti.com/general/docs/lit/getliterature.tsp?genericPartNumber=DAC8568&fileType=pdf; ComponentLink3Description: Package Specification; ComponentLink3URL: http://www.ti.com/lit/ml/mpds361/mpds361.pdf
footprint TI-PW16_N (SOP, 16-Leads, Body 5x4.4mm, Pitch 0.65mm, IPC Medium Density)
footprint TI-PW16_L (SOP, 16-Leads, Body 5x4.4mm, Pitch 0.65mm, IPC High Density)
footprint TI-PW16_M (SOP, 16-Leads, Body 5x4.4mm, Pitch 0.65mm, IPC Low Density)
pins: 1 ~{LDAC} (in) "Load DACs.", 2 ~{SYNC} (in) "Level-triggered control input (active low). This input is the frame synchronization signal for the input data. When S\Y\N\C\ goes low, it enables the input shift register, and data are sampled on subsequen falling clock (See Datasheet)", 3 AVDD (power) "Power-supply input, 2.7V to 5.5V", 4 VOUTA (hiz) "Analog output voltage from DAC A", 5 VOUTC (hiz) "Analog output voltage from DAC C", 6 VOUTE (hiz) "Analog output voltage from DAC E", 7 VOUTG (hiz) "Analog output voltage from DAC G", 8 VREFIN/VREFOUT (io) "Positive reference input / reference output 2.5V if internal reference used", 9 ~{CLR} (in) "Asynchronous clear input.", 10 VOUTH (hiz) "Analog output voltage from DAC H", 11 VOUTF (hiz) "Analog output voltage from DAC F", 12 VOUTD (hiz) "Analog output voltage from DAC D", 13 VOUTB (hiz) "Analog output voltage from DAC B", 14 GND (power) "Ground reference point for all circuitry on the devic", 15 DIN (in) "Serial data input. Data are clocked into the 32-bit input shift register on each falling edge of the serial clock input. Schmitt-Trigger logic input.", 16 SCLK (in) "Serial clock input. Data can be transferred at rates up to 50MHz. Schmitt-Trigger logic input."